# Altium schematic symbol library analog_misc.SchLib: 14 symbols
Pins are listed as number, name and electrical type; pins without a type are passive.

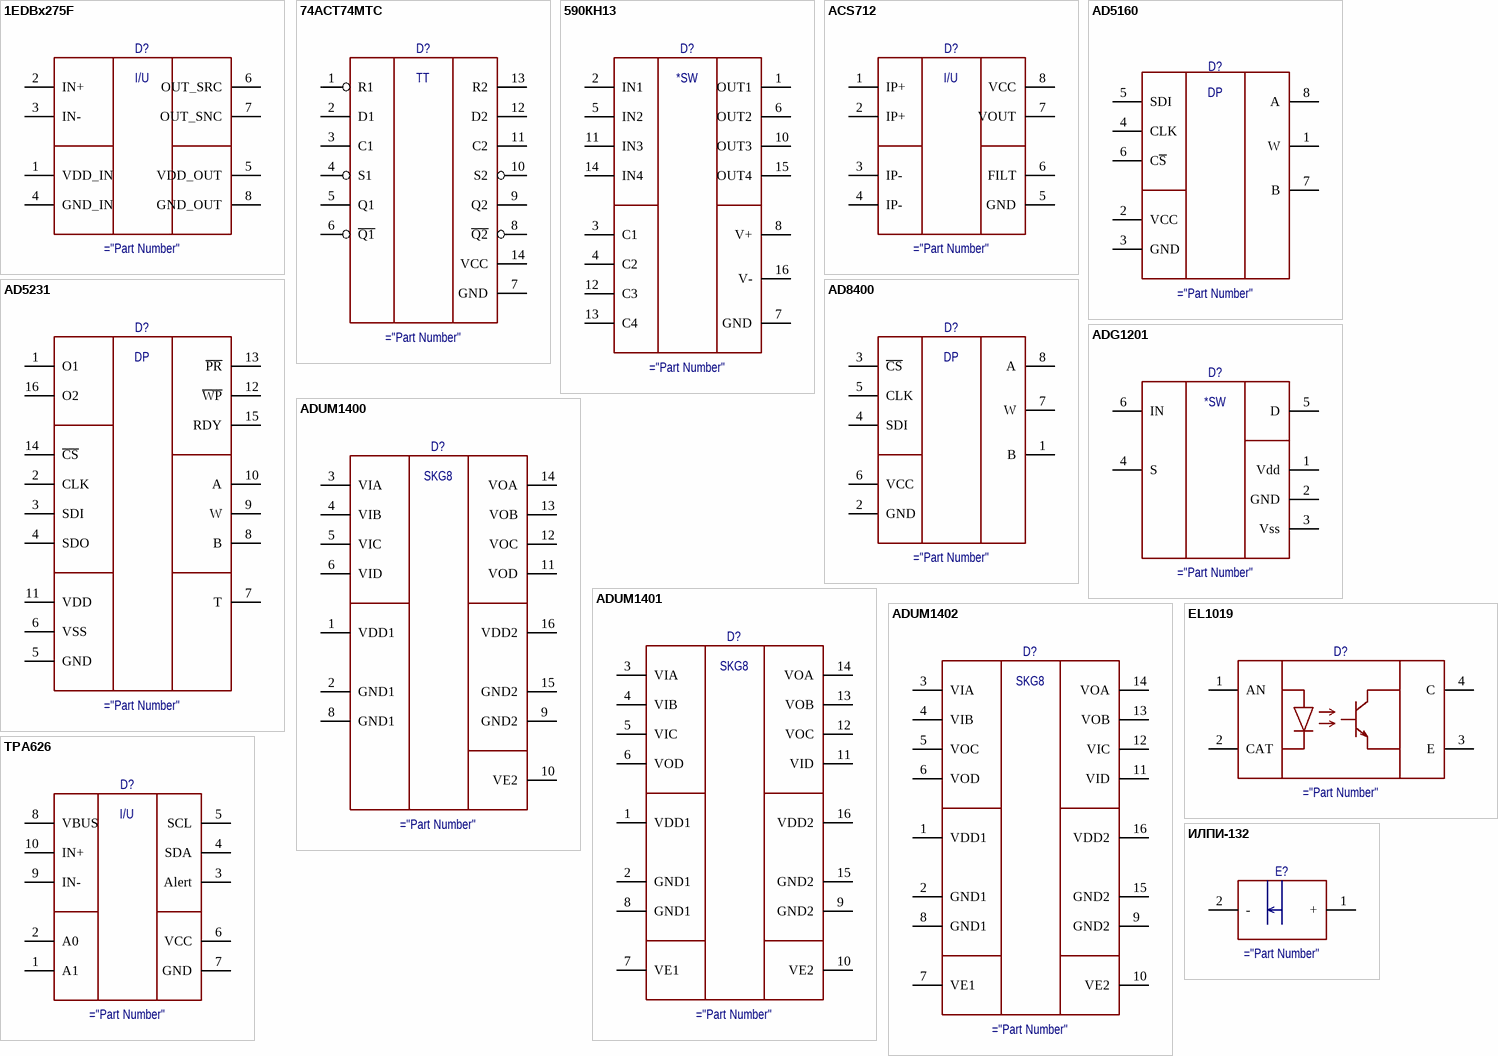
[diagram p0: symbols 1EDBx275F to ИЛПИ-132]

## 1EDBx275F
designator D?
Current Sensor
pins: 1 VDD_IN, 2 IN+, 3 IN-, 4 GND_IN, 5 VDD_OUT, 6 OUT_SRC, 7 OUT_SNC, 8 GND_OUT
text: I/U

## 74ACT74MTC
designator D?
D-trigger 2-bit
pins: 1 R1, 2 D1, 3 C1, 4 S1, 5 Q1, 6 ~{Q1}, 7 GND, 8 ~{Q2}, 9 Q2, 10 S2, 11 C2, 12 D2, 13 R2, 14 VCC
text: TT

## 590КН13
designator D?
Switch
pins: 1 OUT1, 2 IN1, 3 C1, 4 C2, 5 IN2, 6 OUT2, 7 GND, 8 V+, 10 OUT3, 11 IN3, 12 C3, 13 C4, 14 IN4, 15 OUT4, 16 V-
text: *SW

## ACS712
designator D?
Current Sensor
pins: 1 IP+, 2 IP+, 3 IP-, 4 IP-, 5 GND, 6 FILT, 7 VOUT, 8 VCC
text: I/U

## AD5160
designator D?
Potentiometer
pins: 1 W, 2 VCC, 3 GND, 4 CLK, 5 SDI, 6 C~{S}, 7 B, 8 A
text: DP

## AD5231
designator D?
Potentiometer 10-bit
pins: 1 O1, 2 CLK, 3 SDI, 4 SDO, 5 GND, 6 VSS, 7 T, 8 B, 9 W, 10 A, 11 VDD, 12 ~{WP}, 13 ~{PR}, 14 ~{CS}, 15 RDY, 16 O2
text: DP

## AD8400
designator D?
Potentiometer
pins: 1 B, 2 GND, 3 ~{CS}, 4 SDI, 5 CLK, 6 VCC, 7 W, 8 A
text: DP

## ADG1201
designator D?
Switch
pins: 1 Vdd, 2 GND, 3 Vss, 4 S, 5 D, 6 IN
text: *SW

## ADUM1400
designator D?
Isolator 4ch
pins: 1 VDD1, 2 GND1, 3 VIA, 4 VIB, 5 VIC, 6 VID, 7 NC hidden, 8 GND1, 9 GND2, 10 VE2, 11 VOD, 12 VOC, 13 VOB, 14 VOA, 15 GND2, 16 VDD2
text: SKG8

## ADUM1401
designator D?
Isolator 4ch
pins: 1 VDD1, 2 GND1, 3 VIA, 4 VIB, 5 VIC, 6 VOD, 7 VE1, 8 GND1, 9 GND2, 10 VE2, 11 VID, 12 VOC, 13 VOB, 14 VOA, 15 GND2, 16 VDD2
text: SKG8

## ADUM1402
designator D?
Isolator 4ch
pins: 1 VDD1, 2 GND1, 3 VIA, 4 VIB, 5 VOC, 6 VOD, 7 VE1, 8 GND1, 9 GND2, 10 VE2, 11 VID, 12 VIC, 13 VOB, 14 VOA, 15 GND2, 16 VDD2
text: SKG8

## EL1019
designator D?
Opto
pins: 1 AN, 2 CAT, 3 E, 4 C

## TPA626
designator D?
Current Sensor
pins: 1 A1, 2 A0, 3 Alert, 4 SDA, 5 SCL, 6 VCC, 7 GND, 8 VBUS, 9 IN-, 10 IN+
text: I/U

## ИЛПИ-132
designator E?
Infrared emitter
pins: 1 +, 2 -